# Altium schematic symbol library alt lib.SchLib: 35 symbols
Pins are listed as number, name and electrical type; pins without a type are passive.

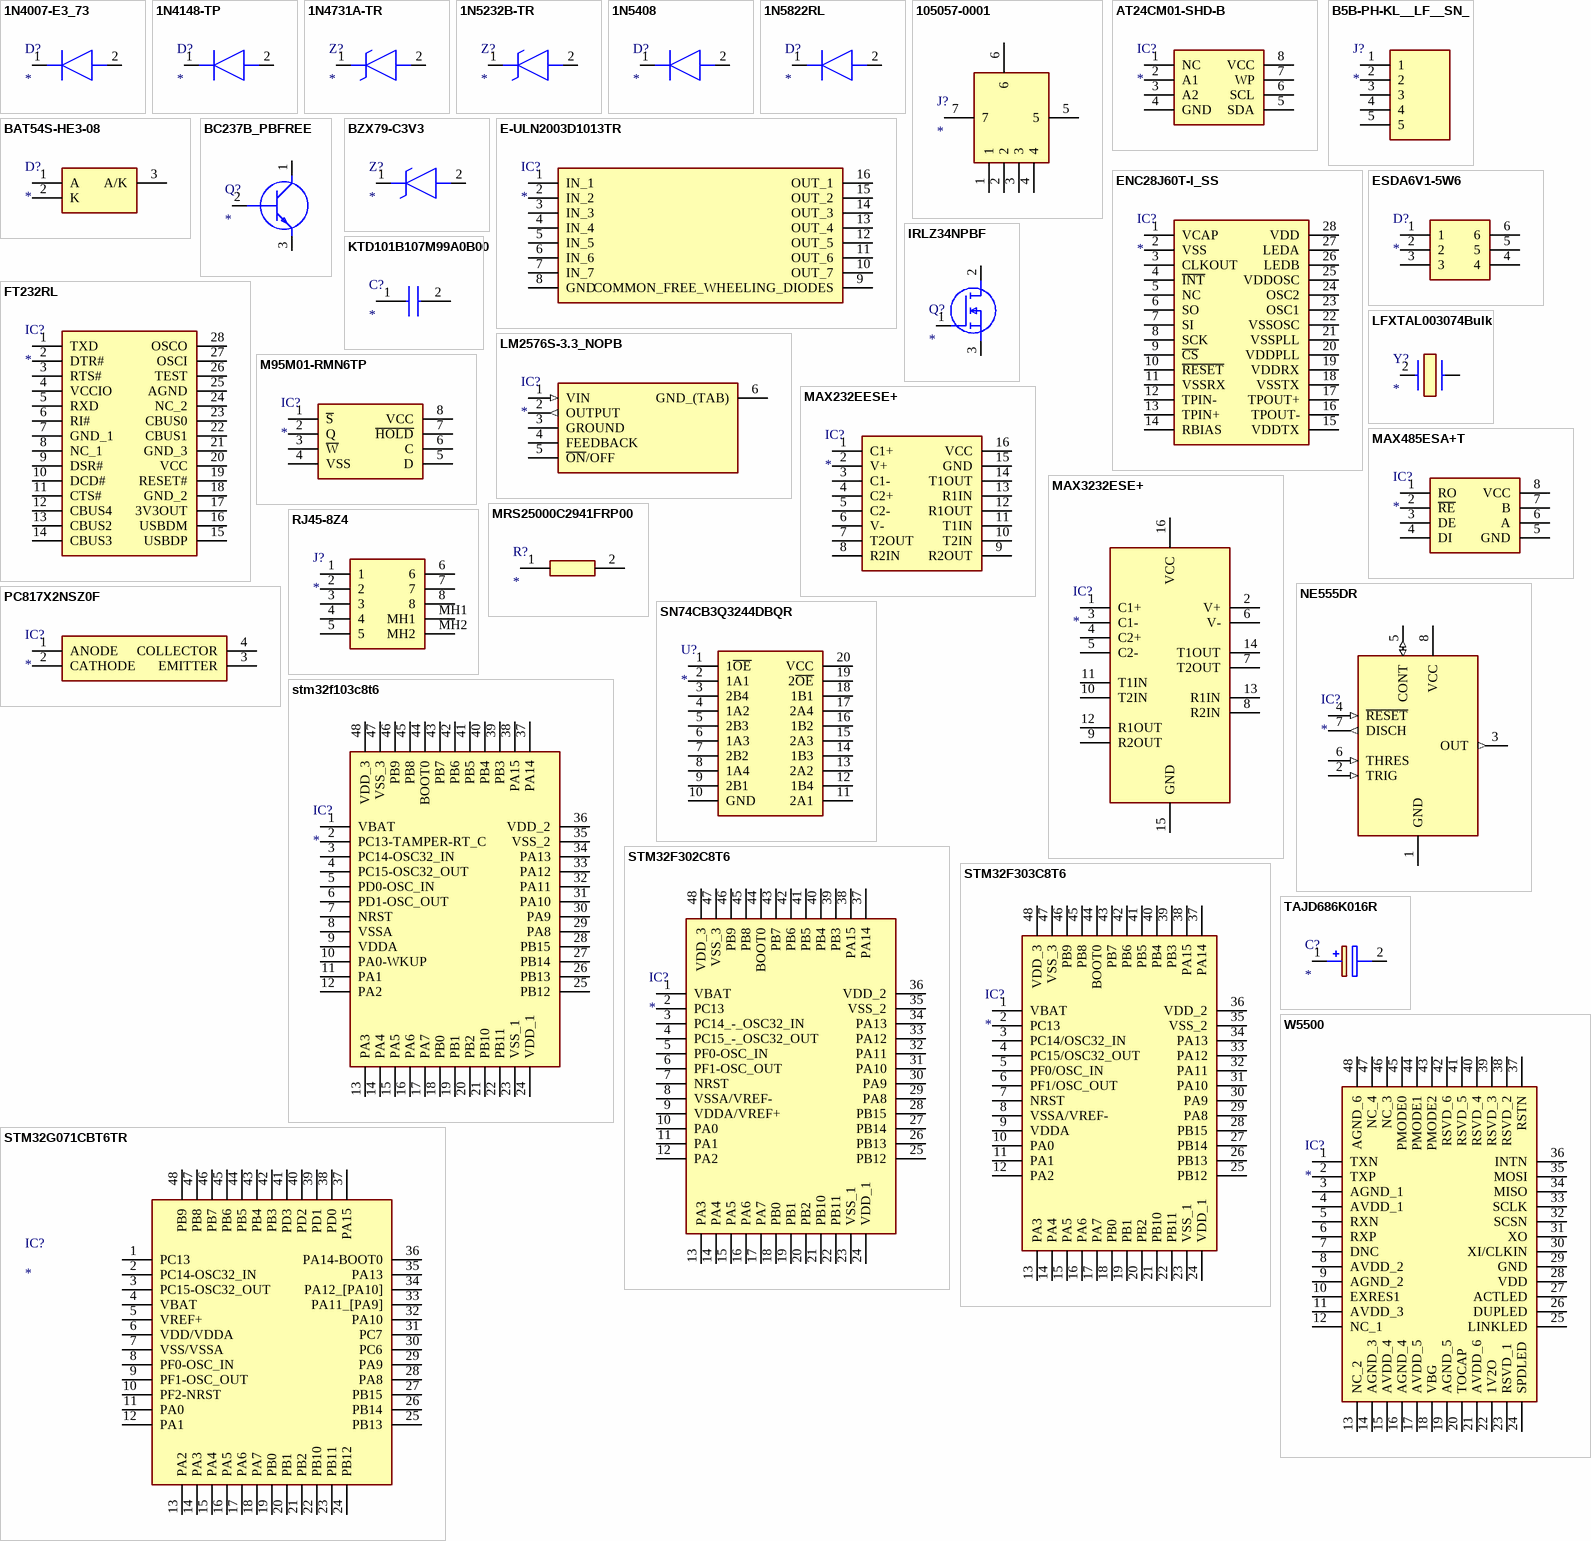
[diagram p0: symbols 1N4007-E3_73 to W5500]

## 1N4007-E3_73
designator D?
Diode; Manufacturer_Name: Vishay; Manufacturer_Part_Number: 1N4007-E3/73; Datasheet Link: https://mouser.componentsearchengine.com/Datasheets/2/1N4007-E3_73.pdf; Mouser Part Number: 625-1N4007-E3/73; Mouser Price/Stock: https://www.mouser.co.uk/ProductDetail/Vishay-General-Semiconductor/1N4007-E3-73?qs=N4vtoAxH%2FSqT3Ng3e4K0Gw%3D%3D; Arrow Part Number: 1N4007-E3/73; Arrow Price/Stock: https://www.arrow.com/en/products/1n4007-e373/vishay?utm_currency=USD&region=europe
footprint DIOAD1405W86L465D235
pins: 1 K, 2 A

## 1N4148-TP
designator D?
Diode; Manufacturer_Name: MCC; Manufacturer_Part_Number: 1N4148-TP; Datasheet Link: https://datasheet.datasheetarchive.com/originals/distributors/Datasheets_SAMA/a133e21e9f85d77be1f89cbddda842d3.pdf; Mouser Part Number: 833-1N4148-TP; Mouser Price/Stock: https://www.mouser.co.uk/ProductDetail/Micro-Commercial-Components-MCC/1N4148-TP?qs=WKjw%2FjEc%2FjNjhjv2m2YYjw%3D%3D; Arrow Part Number: 1N4148-TP; Arrow Price/Stock: https://www.arrow.com/en/products/1n4148-tp/micro-commercial-components?region=nac
footprint DIOAD1220W52L420D200
pins: 1 K, 2 A

## 1N4731A-TR
designator Z?
Zener Diode; Manufacturer_Name: Vishay; Manufacturer_Part_Number: 1N4731A-TR; Datasheet Link: https://datasheet.datasheetarchive.com/originals/distributors/Datasheets-314/271599.pdf; Mouser Part Number: 78-1N4731A; Mouser Price/Stock: https://www.mouser.co.uk/ProductDetail/Vishay-Semiconductors/1N4731A-TR?qs=oNDV51lhjEN87sfLnBRrvg%3D%3D; Arrow Part Number: 1N4731A-TR; Arrow Price/Stock: https://www.arrow.com/en/products/1n4731a-tr/vishay
footprint DIOAD1310W86L370D235
pins: 1 K, 2 A

## 1N5232B-TR
designator Z?
Zener Diode; Manufacturer_Name: Vishay; Manufacturer_Part_Number: 1N5232B-TR; Datasheet Link: https://www.vishay.com/docs/85588/1n5221.pdf; Mouser Part Number: 78-1N5232B; Mouser Price/Stock: https://www.mouser.co.uk/ProductDetail/Vishay-Semiconductors/1N5232B-TR?qs=TNTIDjy6APrTslQIiZV26Q%3D%3D; Arrow Part Number: 1N5232B-TR; Arrow Price/Stock: https://www.arrow.com/en/products/1n5232b-tr/vishay?region=nac
footprint DIOAD990W55L350D160
pins: 1 K, 2 A

## 1N5408
designator D?
Diode; Manufacturer_Name: HY Electronic; Manufacturer_Part_Number: 1N5408; Datasheet Link: http://uk.rs-online.com/web/p/products/9033315
footprint DIOAD3020W130L900D530
pins: 1 K, 2 A

## 1N5822RL
designator D?
Diode; Manufacturer_Name: STMicroelectronics; Manufacturer_Part_Number: 1N5822RL; Datasheet Link: http://www.st.com/web/en/resource/technical/document/datasheet/CD00001626.pdf; Mouser Part Number: 511-1N5822-TR; Mouser Price/Stock: https://www.mouser.co.uk/ProductDetail/STMicroelectronics/1N5822RL?qs=7w4CAYqbMj3Og2p4%2Fm2SJg%3D%3D; Arrow Part Number: 1N5822RL; Arrow Price/Stock: https://www.arrow.com/en/products/1n5822rl/stmicroelectronics?region=europe
footprint DIOAD3070W130L950D530
pins: 1 K, 2 A

## 105057-0001
designator J?
Connector; Manufacturer_Name: Molex; Manufacturer_Part_Number: 105057-0001; Datasheet Link: https://www.molex.com/content/dam/molex/molex-dot-com/products/automated/en-us/salesdrawingpdf/105/105057/1050570001_sd.pdf?inline; Height: 10.5mm; Mouser Part Number: 538-105057-0001; Mouser Price/Stock: https://www.mouser.co.uk/ProductDetail/Molex/105057-0001?qs=3OKVfsn1b5CF9LM7npexZw%3D%3D
footprint 1050570001
pins: 1, 2, 3, 4, 5, 6, 7

## AT24CM01-SHD-B
designator IC?
Integrated Circuit; Manufacturer_Name: Microchip; Manufacturer_Part_Number: AT24CM01-SHD-B; Datasheet Link: https://componentsearchengine.com/Datasheets/1/AT24CM01-SHD-B.pdf; Height: 2.16mm; Mouser Part Number: 556-AT24CM01-SHD-B; Mouser Price/Stock: https://www.mouser.co.uk/ProductDetail/Microchip-Technology/AT24CM01-SHD-B?qs=s44pgLhgXQg2TZnboV%2FEWg%3D%3D; Arrow Part Number: AT24CM01-SHD-B; Arrow Price/Stock: https://www.arrow.com/en/products/at24cm01-shd-b/microchip-technology
footprint SOIC127P798X216-8N
pins: 1 NC, 2 A1, 3 A2, 4 GND (power), 5 SDA, 6 SCL, 7 WP, 8 VCC

## B5B-PH-KL__LF__SN_
designator J?
Connector; Manufacturer_Name: JST (JAPAN SOLDERLESS TERMINALS); Manufacturer_Part_Number: B5B-PH-KL (LF)(SN); Height: 6mm; Arrow Part Number: B5B-PH-KL (LF)(SN); Arrow Price/Stock: https://www.arrow.com/en/products/b5b-ph-kl-lf-sn/jst-manufacturing?utm_currency=USD&region=europe
footprint SHDR5W50P0X200_1X5_1190X450X600P
pins: 1, 2, 3, 4, 5

## BAT54S-HE3-08
designator D?
Schottky Diode; Manufacturer_Name: Vishay; Manufacturer_Part_Number: BAT54S-HE3-08; Datasheet Link: http://www.vishay.com/docs/85508/bat54.pdf; Height: 1.15mm; Mouser Part Number: 78-BAT54S-HE3-08; Mouser Price/Stock: https://www.mouser.co.uk/ProductDetail/Vishay-Semiconductors/BAT54S-HE3-08?qs=ESFF34Uzhwhn6y9Gfu%2FCEQ%3D%3D; Arrow Part Number: BAT54S-HE3-08; Arrow Price/Stock: https://www.arrow.com/en/products/bat54s-he3-08/vishay
footprint SOT95P248X115-3N
pins: 1 A, 2 K, 3 A/K

## BC237B_PBFREE
designator Q?
Transistor BJT NPN; Manufacturer_Name: Central Semiconductor; Manufacturer_Part_Number: BC237B PBFREE; Datasheet Link: https://my.centralsemi.com/get_document.php?cmp=1&mergetype=pd&mergepath=pd&pdf_id=BC237A-C.PDF; Height: 7.87mm; Mouser Part Number: 610-BC237B; Mouser Price/Stock: https://www.mouser.co.uk/ProductDetail/Central-Semiconductor/BC237B-PBFREE?qs=u16ybLDytRZVyjPFroByYw%3D%3D
footprint BC237BPBFREE
pins: 1 C, 2 B, 3 E

## BZX79-C3V3
designator Z?
Zener Diode; Manufacturer_Name: Nexperia; Manufacturer_Part_Number: BZX79-C3V3; Datasheet Link: https://datasheet.datasheetarchive.com/originals/distributors/Datasheets-SFU1/DSASFU100011374.pdf; Mouser Part Number: N/A; Mouser Price/Stock: https://www.mouser.co.uk/ProductDetail/Nexperia/BZX79-C3V3?qs=vHuUswq2%252BsxAKcjvT%2FIKSQ%3D%3D
footprint DIOAD1165W56L425D185
pins: 1 K, 2 A

## E-ULN2003D1013TR
designator IC?
Integrated Circuit; Manufacturer_Name: STMicroelectronics; Manufacturer_Part_Number: E-ULN2003D1013TR; Datasheet Link: https://www.st.com/content/ccc/resource/technical/document/datasheet/f3/6e/c8/64/4d/b3/4e/38/CD00001244.pdf/files/CD00001244.pdf/jcr:content/translations/en.CD00001244.pdf; Height: 1.75mm; Mouser Part Number: 511-E-ULN2003D1013TR; Mouser Price/Stock: https://www.mouser.co.uk/ProductDetail/STMicroelectronics/E-ULN2003D1013TR?qs=RMKZFpOXosE33%2Fk5HgpQgg%3D%3D
footprint SOIC127P600X175-16N
pins: 1 IN_1, 2 IN_2, 3 IN_3, 4 IN_4, 5 IN_5, 6 IN_6, 7 IN_7, 8 GND, 9 COMMON_FREE_WHEELING_DIODES, 10 OUT_7, 11 OUT_6, 12 OUT_5, 13 OUT_4, 14 OUT_3, 15 OUT_2, 16 OUT_1

## ENC28J60T-I_SS
designator IC?
Integrated Circuit; Manufacturer_Name: Microchip; Manufacturer_Part_Number: ENC28J60T-I/SS; Datasheet Link: https://mouser.componentsearchengine.com/Datasheets/2/ENC28J60T-I_SS.pdf; Height: 2mm; Mouser Part Number: 579-ENC28J60T-I/SS; Mouser Price/Stock: https://www.mouser.co.uk/ProductDetail/Microchip-Technology/ENC28J60T-I-SS?qs=0swJU7D5CoWRYqX2omYpJQ%3D%3D; Arrow Part Number: ENC28J60T-I/SS; Arrow Price/Stock: https://www.arrow.com/en/products/enc28j60t-iss/microchip-technology?utm_currency=USD&region=nac
footprint SOP65P780X200-28N
pins: 1 VCAP, 2 VSS, 3 CLKOUT, 4 ~{INT}, 5 NC, 6 SO, 7 SI, 8 SCK, 9 ~{CS}, 10 ~{RESET}, 11 VSSRX, 12 TPIN-, 13 TPIN+, 14 RBIAS, 15 VDDTX, 16 TPOUT-, 17 TPOUT+, 18 VSSTX, 19 VDDRX, 20 VDDPLL, 21 VSSPLL, 22 VSSOSC, 23 OSC1, 24 OSC2, 25 VDDOSC, 26 LEDB, 27 LEDA, 28 VDD

## ESDA6V1-5W6
designator D?
TVS Diode (Uni-directional); Manufacturer_Name: STMicroelectronics; Manufacturer_Part_Number: ESDA6V1-5W6; Datasheet Link: http://www.st.com/content/ccc/resource/technical/document/datasheet/cd/9b/8d/39/1f/d4/43/ba/CD00064033.pdf/files/CD00064033.pdf/jcr:content/translations/en.CD00064033.pdf; Height: 1.1mm; Mouser Part Number: 511-ESDA6V1-5W6; Mouser Price/Stock: https://www.mouser.co.uk/ProductDetail/STMicroelectronics/ESDA6V1-5W6?qs=1B3Q%2FtOggyxHnLyTXcEtKg%3D%3D; Arrow Part Number: ESDA6V1-5W6; Arrow Price/Stock: https://www.arrow.com/en/products/esda6v1-5w6/stmicroelectronics?region=nac
footprint SOT65P210X110-6N
pins: 1, 2, 3, 4, 5, 6

## FT232RL
designator IC?
Integrated Circuit; Manufacturer_Name: FTDI Chip; Manufacturer_Part_Number: FT232RL; Datasheet Link: http://www.ftdichip.com/Support/Documents/DataSheets/ICs/DS_FT232R.pdf; Height: 2mm; Arrow Part Number: FT232RL; Arrow Price/Stock: https://www.arrow.com/en/products/ft232rl/ftdi-chip?region=nac
footprint SOP65P778X200-28N
pins: 1 TXD, 2 DTR#, 3 RTS#, 4 VCCIO, 5 RXD, 6 RI#, 7 GND_1, 8 NC_1, 9 DSR#, 10 DCD#, 11 CTS#, 12 CBUS4, 13 CBUS2, 14 CBUS3, 15 USBDP, 16 USBDM, 17 3V3OUT, 18 GND_2, 19 RESET#, 20 VCC, 21 GND_3, 22 CBUS1, 23 CBUS0, 24 NC_2, 25 AGND, 26 TEST, 27 OSCI, 28 OSCO

## IRLZ34NPBF
designator Q?
MOSFET (N-Channel); Manufacturer_Name: Infineon; Manufacturer_Part_Number: IRLZ34NPBF; Datasheet Link: https://componentsearchengine.com/Datasheets/2/IRLZ34NPBF.pdf; Height: 4.69mm; Mouser Part Number: 942-IRLZ34NPBF; Mouser Price/Stock: https://www.mouser.co.uk/ProductDetail/Infineon-Technologies/IRLZ34NPBF?qs=9%252BKlkBgLFf2QcbVnu%252BS1ZA%3D%3D; Arrow Part Number: IRLZ34NPBF; Arrow Price/Stock: https://www.arrow.com/en/products/irlz34npbf/infineon-technologies-ag?utm_currency=USD&region=europe
footprint TO254P469X1042X1967-3P
pins: 1 G, 2 D, 3 S

## KTD101B107M99A0B00
designator C?
Capacitor; Manufacturer_Name: Chemi-Con; Manufacturer_Part_Number: KTD101B107M99A0B00; Datasheet Link: https://www.digikey.ph/en/products/detail/chemi-con/KTD101B107M99A0B00/6189640?msockid=39f1ec84d77b6f4428b7f904d6676eed; Height: 20mm; Mouser Part Number: 661-KTD101B107M99A0B; Mouser Price/Stock: https://www.mouser.co.uk/ProductDetail/United-Chemi-Con/KTD101B107M99A0B00?qs=4JX4e57RtWy12yhiyvIe4g%3D%3D
footprint KTD101B107M99A0B00
pins: 1, 2

## LFXTAL003074Bulk
designator Y?
Crystal or Oscillator; Manufacturer_Name: IQD; Manufacturer_Part_Number: LFXTAL003074Bulk; Datasheet Link: https://www.arrow.com/en/products/lfxtal003074bulk/iqd-frequency-products; Height: 4.1mm; Mouser Part Number: 449-LFXTAL003074BULK; Mouser Price/Stock: https://www.mouser.co.uk/ProductDetail/IQD/LFXTAL003074Bulk?qs=e4%2FAndAAwgKzmqycppxIoA%3D%3D; Arrow Part Number: LFXTAL003074BULK; Arrow Price/Stock: https://www.arrow.com/en/products/lfxtal003074bulk/iqd-frequency-products?region=europe
footprint LFXTAL003074Bulk
pins: 2 CRYSTAL_2, ?1

## LM2576S-3.3_NOPB
designator IC?
Integrated Circuit; Manufacturer_Name: Texas Instruments; Manufacturer_Part_Number: LM2576S-3.3/NOPB; Datasheet Link: http://www.ti.com/lit/ds/symlink/lm2576.pdf; Height: 4.65mm; Mouser Part Number: 926-LM2576S-3.3/NOPB; Mouser Price/Stock: https://www.mouser.co.uk/ProductDetail/Texas-Instruments/LM2576S-3.3-NOPB?qs=X1J7HmVL2ZHgUfnXFulfHg%3D%3D; Arrow Part Number: LM2576S-3.3/NOPB; Arrow Price/Stock: https://www.arrow.com/en/products/lm2576s-3.3nopb/texas-instruments?utm_currency=USD&region=nac
footprint TO170P1435X465-6N
pins: 1 VIN (in), 2 OUTPUT (out), 3 GROUND, 4 FEEDBACK, 5 ~{ON}/OFF, 6 GND_(TAB) (power)

## M95M01-RMN6TP
designator IC?
Integrated Circuit; Manufacturer_Name: STMicroelectronics; Manufacturer_Part_Number: M95M01-RMN6TP; Datasheet Link: http://www.st.com/content/ccc/resource/technical/document/datasheet/ad/ab/88/6c/dc/4b/4c/28/CD00152481.pdf/files/CD00152481.pdf/jcr:content/translations/en.CD00152481.pdf; Height: 1.75mm; Mouser Part Number: 511-M95M01-RMN6TP; Mouser Price/Stock: https://www.mouser.co.uk/ProductDetail/STMicroelectronics/M95M01-RMN6TP?qs=qolwYojYp3QqDPQWNiLmMg%3D%3D; Arrow Part Number: M95M01-RMN6TP; Arrow Price/Stock: https://www.arrow.com/en/products/m95m01-rmn6tp/stmicroelectronics?region=nac
footprint SOIC127P600X175-8N
pins: 1 ~{S}, 2 Q, 3 ~{W}, 4 VSS, 5 D, 6 C, 7 ~{HOLD}, 8 VCC

## MAX232EESE+
designator IC?
Integrated Circuit; Manufacturer_Name: Analog Devices; Manufacturer_Part_Number: MAX232EESE+; Datasheet Link: https://www.analog.com/MAX232E/datasheet; Height: 1.99mm; Mouser Part Number: 700-MAX232EESE; Mouser Price/Stock: https://www.mouser.co.uk/ProductDetail/Maxim-Integrated/MAX232EESE%2b?qs=1THa7WoU59E6tBtO6rcq%252BA%3D%3D; Arrow Part Number: MAX232EESE+; Arrow Price/Stock: https://www.arrow.com/en/products/max232eese/analog-devices?region=europe
footprint SOP65P778X199-16N
pins: 1 C1+, 2 V+, 3 C1-, 4 C2+, 5 C2-, 6 V-, 7 T2OUT, 8 R2IN, 9 R2OUT, 10 T2IN, 11 T1IN, 12 R1OUT, 13 R1IN, 14 T1OUT, 15 GND, 16 VCC

## MAX485ESA+T
designator IC?
Integrated Circuit; Manufacturer_Name: Analog Devices; Manufacturer_Part_Number: MAX485ESA+T; Datasheet Link: https://datasheets.maximintegrated.com/en/ds/MAX1487-MAX491.pdf; Height: 1.75mm; Mouser Part Number: 700-MAX485ESAT; Mouser Price/Stock: https://www.mouser.co.uk/ProductDetail/Analog-Devices-Maxim-Integrated/MAX485ESA%2bT?qs=LHmEVA8xxfYXmvxEk%252BFtEg%3D%3D; Arrow Part Number: MAX485ESA+T; Arrow Price/Stock: https://www.arrow.com/en/products/max485esat/analog-devices?utm_currency=USD&region=nac
footprint SOIC127P600X175-8N
pins: 1 RO, 2 ~{RE}, 3 DE, 4 DI, 5 GND, 6 A, 7 B, 8 VCC

## MAX3232ESE+
designator IC?
Integrated Circuit; Manufacturer_Name: Analog Devices; Manufacturer_Part_Number: MAX3232ESE+; Datasheet Link: https://www.mouser.com/datasheet/2/256/MAX3222-MAX3241-1292123.pdf; Height: 1.75mm; Mouser Part Number: 700-MAX3232ESE; Mouser Price/Stock: https://www.mouser.co.uk/ProductDetail/Analog-Devices-Maxim-Integrated/MAX3232ESE%2b?qs=1THa7WoU59GfcUr9ieNstA%3D%3D; Arrow Part Number: MAX3232ESE+; Arrow Price/Stock: https://www.arrow.com/en/products/max3232ese/analog-devices?region=asia
footprint SOIC127P600X175-16N
pins: 1 C1+, 2 V+, 3 C1-, 4 C2+, 5 C2-, 6 V-, 7 T2OUT, 8 R2IN, 9 R2OUT, 10 T2IN, 11 T1IN, 12 R1OUT, 13 R1IN, 14 T1OUT, 15 GND, 16 VCC

## MRS25000C2941FRP00
designator R?
Resistor; Manufacturer_Name: Vishay; Manufacturer_Part_Number: MRS25000C2941FRP00; Datasheet Link: http://www.vishay.com/docs/28724/mrs16m25.pdf; Mouser Part Number: N/A; Mouser Price/Stock: https://www.mouser.co.uk/ProductDetail/Vishay-BC-Components/MRS25000C2941FRP00?qs=gQQ%2FpDEpiRIm3bTH1erXVg%3D%3D; Arrow Part Number: MRS25000C2941FRP00; Arrow Price/Stock: https://www.arrow.com/en/products/mrs25000c2941frp00/vishay
footprint RESAD1650W60L650D250
pins: 1, 2

## NE555DR
designator IC?
Integrated Circuit; Manufacturer_Name: Texas Instruments; Manufacturer_Part_Number: NE555DR; Datasheet Link: http://www.ti.com/lit/ds/symlink/ne555.pdf; Height: 1.75mm; Mouser Part Number: 595-NE555DR; Mouser Price/Stock: https://www.mouser.com/Search/Refine.aspx?Keyword=595-NE555DR; RS Part Number: 1218414; RS Price/Stock: http://uk.rs-online.com/web/p/products/1218414
footprint SOIC127P600X175-8N
pins: 1 GND (power), 2 TRIG (in), 3 OUT (out), 4 ~{RESET} (in), 5 CONT (io), 6 THRES (in), 7 DISCH (out), 8 VCC (power)

## PC817X2NSZ0F
designator IC?
Integrated Circuit; Manufacturer_Name: Sharp Microelectronics; Manufacturer_Part_Number: PC817X2NSZ0F; Datasheet Link: https://datasheet.datasheetarchive.com/originals/distributors/Datasheets_SAMA/458e45842a103a05998fcebbd6f7366e.pdf; Height: 4mm; Mouser Part Number: N/A; Mouser Price/Stock: https://www.mouser.co.uk/ProductDetail/Sharp-Microelectronics/PC817X2NSZ0F?qs=6kT3pPPHxnU7uYWM8Yy85A%3D%3D
footprint DIP762W60P254L458H400Q4N
pins: 1 ANODE, 2 CATHODE, 3 EMITTER, 4 COLLECTOR

## RJ45-8Z4
designator J?
Connector; Manufacturer_Name: TE Connectivity; Manufacturer_Part_Number: RJ45-8Z4; Datasheet Link: https://media.digikey.com/pdf/Data%20Sheets/Tyco%20Electronics%20Corcom%20PDFs/Z_Series.pdf; Height: 13.08mm; Mouser Part Number: 592-RJ45-8Z4; Mouser Price/Stock: https://www.mouser.co.uk/ProductDetail/TE-Connectivity-Corcom/RJ45-8Z4?qs=7kimBNJHayDCs5Ci3ERF6w%3D%3D
footprint RJ458Z4
pins: 1, 2, 3, 4, 5, 6, 7, 8, MH1, MH2

## SN74CB3Q3244DBQR
designator U?
Undefined or Miscellaneous; Manufacturer_Name: Texas Instruments; Manufacturer_Part_Number: SN74CB3Q3244DBQR; Datasheet Link: http://www.ti.com/lit/gpn/sn74cb3q3244; Height: 1.75mm; Mouser Part Number: 595-SN74CB3Q3244DBQR; Mouser Price/Stock: https://www.mouser.co.uk/ProductDetail/Texas-Instruments/SN74CB3Q3244DBQR?qs=ULgY8XwKjTm4U%2FmPjPW1jw%3D%3D
footprint SOP64P600X175-20N
pins: 1 1~{OE}, 2 1A1, 3 2B4, 4 1A2, 5 2B3, 6 1A3, 7 2B2, 8 1A4, 9 2B1, 10 GND, 11 2A1, 12 1B4, 13 2A2, 14 1B3, 15 2A3, 16 1B2, 17 2A4, 18 1B1, 19 2~{OE}, 20 VCC

## stm32f103c8t6
designator IC?
Integrated Circuit; Manufacturer_Name: STMicroelectronics; Manufacturer_Part_Number: stm32f103c8t6; Datasheet Link: http://media.digikey.com/pdf/Data%20Sheets/ST%20Microelectronics%20PDFS/STM32F103x8,B.pdf; Height: 1.6mm; Mouser Part Number: 511-STM32F103C8T6; Mouser Price/Stock: https://www.mouser.co.uk/ProductDetail/STMicroelectronics/STM32F103C8T6?qs=bhCVus9SdFtq6kqxsU5%2FDA%3D%3D; Arrow Part Number: STM32F103C8T6; Arrow Price/Stock: https://www.arrow.com/en/products/stm32f103c8t6/stmicroelectronics?utm_currency=USD&region=nac
footprint QFP50P900X900X160-48N
pins: 1 VBAT, 2 PC13-TAMPER-RT_C, 3 PC14-OSC32_IN, 4 PC15-OSC32_OUT, 5 PD0-OSC_IN, 6 PD1-OSC_OUT, 7 NRST, 8 VSSA, 9 VDDA, 10 PA0-WKUP, 11 PA1, 12 PA2, 13 PA3, 14 PA4, 15 PA5, 16 PA6, 17 PA7, 18 PB0, 19 PB1, 20 PB2, 21 PB10, 22 PB11, 23 VSS_1, 24 VDD_1, 25 PB12, 26 PB13, 27 PB14, 28 PB15, 29 PA8, 30 PA9, 31 PA10, 32 PA11, 33 PA12, 34 PA13, 35 VSS_2, 36 VDD_2, 37 PA14, 38 PA15, 39 PB3, 40 PB4, 41 PB5, 42 PB6, 43 PB7, 44 BOOT0, 45 PB8, 46 PB9, 47 VSS_3, 48 VDD_3

## STM32F302C8T6
designator IC?
Integrated Circuit; Manufacturer_Name: STMicroelectronics; Manufacturer_Part_Number: STM32F302C8T6; Datasheet Link: http://www.st.com/content/ccc/resource/technical/document/datasheet/e4/06/d5/04/58/af/41/14/DM00093333.pdf/files/DM00093333.pdf/jcr:content/translations/en.DM00093333.pdf; Height: 1.6mm; Mouser Part Number: 511-STM32F302C8T6; Mouser Price/Stock: https://www.mouser.co.uk/ProductDetail/STMicroelectronics/STM32F302C8T6?qs=F5OEftmZcCDUtHR76ET77A%3D%3D; Arrow Part Number: STM32F302C8T6; Arrow Price/Stock: https://www.arrow.com/en/products/stm32f302c8t6/stmicroelectronics
footprint QFP50P900X900X160-48N
pins: 1 VBAT (power), 2 PC13, 3 PC14_-_OSC32_IN, 4 PC15_-_OSC32_OUT, 5 PF0-OSC_IN, 6 PF1-OSC_OUT, 7 NRST, 8 VSSA/VREF- (power), 9 VDDA/VREF+ (power), 10 PA0, 11 PA1, 12 PA2, 13 PA3, 14 PA4, 15 PA5, 16 PA6, 17 PA7, 18 PB0, 19 PB1, 20 PB2, 21 PB10, 22 PB11, 23 VSS_1 (power), 24 VDD_1 (power), 25 PB12, 26 PB13, 27 PB14, 28 PB15, 29 PA8, 30 PA9, 31 PA10, 32 PA11, 33 PA12, 34 PA13, 35 VSS_2 (power), 36 VDD_2 (power), 37 PA14, 38 PA15, 39 PB3, 40 PB4, 41 PB5, 42 PB6, 43 PB7, 44 BOOT0, 45 PB8, 46 PB9, 47 VSS_3 (power), 48 VDD_3 (power)

## STM32F303C8T6
designator IC?
Integrated Circuit; Manufacturer_Name: STMicroelectronics; Manufacturer_Part_Number: STM32F303C8T6; Datasheet Link: http://www.farnell.com/datasheets/2042755.pdf; Height: 1.6mm; Mouser Part Number: 511-STM32F303C8T6; Mouser Price/Stock: https://www.mouser.co.uk/ProductDetail/STMicroelectronics/STM32F303C8T6?qs=s5SkPsIz10%2Fkobzkh1AwOg%3D%3D; Arrow Part Number: STM32F303C8T6; Arrow Price/Stock: https://www.arrow.com/en/products/stm32f303c8t6/stmicroelectronics?region=nac
footprint QFP50P900X900X160-48N
pins: 1 VBAT, 2 PC13, 3 PC14/OSC32_IN, 4 PC15/OSC32_OUT, 5 PF0/OSC_IN, 6 PF1/OSC_OUT, 7 NRST, 8 VSSA/VREF-, 9 VDDA, 10 PA0, 11 PA1, 12 PA2, 13 PA3, 14 PA4, 15 PA5, 16 PA6, 17 PA7, 18 PB0, 19 PB1, 20 PB2, 21 PB10, 22 PB11, 23 VSS_1, 24 VDD_1, 25 PB12, 26 PB13, 27 PB14, 28 PB15, 29 PA8, 30 PA9, 31 PA10, 32 PA11, 33 PA12, 34 PA13, 35 VSS_2, 36 VDD_2, 37 PA14, 38 PA15, 39 PB3, 40 PB4, 41 PB5, 42 PB6, 43 PB7, 44 BOOT0, 45 PB8, 46 PB9, 47 VSS_3, 48 VDD_3

## STM32G071CBT6TR
designator IC?
Integrated Circuit; Manufacturer_Name: STMicroelectronics; Manufacturer_Part_Number: STM32G071CBT6TR; Datasheet Link: https://www.st.com/resource/en/datasheet/stm32g071cb.pdf; Height: 1.6mm; Mouser Part Number: 511-STM32G071CBT6TR; Mouser Price/Stock: https://www.mouser.co.uk/ProductDetail/STMicroelectronics/STM32G071CBT6TR?qs=l7cgNqFNU1gody9j5I9dSQ%3D%3D; Arrow Part Number: STM32G071CBT6TR; Arrow Price/Stock: https://www.arrow.com/en/products/stm32g071cbt6tr/stmicroelectronics?region=nac
footprint QFP50P900X900X160-48N
pins: 1 PC13, 2 PC14-OSC32_IN, 3 PC15-OSC32_OUT, 4 VBAT, 5 VREF+, 6 VDD/VDDA, 7 VSS/VSSA, 8 PF0-OSC_IN, 9 PF1-OSC_OUT, 10 PF2-NRST, 11 PA0, 12 PA1, 13 PA2, 14 PA3, 15 PA4, 16 PA5, 17 PA6, 18 PA7, 19 PB0, 20 PB1, 21 PB2, 22 PB10, 23 PB11, 24 PB12, 25 PB13, 26 PB14, 27 PB15, 28 PA8, 29 PA9, 30 PC6, 31 PC7, 32 PA10, 33 PA11_[PA9], 34 PA12_[PA10], 35 PA13, 36 PA14-BOOT0, 37 PA15, 38 PD0, 39 PD1, 40 PD2, 41 PD3, 42 PB3, 43 PB4, 44 PB5, 45 PB6, 46 PB7, 47 PB8, 48 PB9

## TAJD686K016R
designator C?
Capacitor Polarised; Manufacturer_Name: Kyocera AVX; Manufacturer_Part_Number: TAJD686K016R; Datasheet Link: http://datasheets.avx.com/TAJ.pdf; Height: 3.1mm
footprint CAPPM7344X310N
pins: 1 +, 2 -

## W5500
designator IC?
Integrated Circuit; Manufacturer_Name: WIZnet Inc; Manufacturer_Part_Number: W5500; Datasheet Link: http://wizwiki.net/wiki/lib/exe/fetch.php?media=products:w5500:w5500_ds_v106e_141230.pdf; Height: 1.6mm; Mouser Part Number: 950-W5500; Mouser Price/Stock: https://www.mouser.co.uk/ProductDetail/WIZnet/W5500?qs=2vh%252B45pPFtzthUpYPd4pqA%3D%3D
footprint QFP50P900X900X160-48N
pins: 1 TXN, 2 TXP, 3 AGND_1, 4 AVDD_1, 5 RXN, 6 RXP, 7 DNC, 8 AVDD_2, 9 AGND_2, 10 EXRES1, 11 AVDD_3, 12 NC_1, 13 NC_2, 14 AGND_3, 15 AVDD_4, 16 AGND_4, 17 AVDD_5, 18 VBG, 19 AGND_5, 20 TOCAP, 21 AVDD_6, 22 1V2O, 23 RSVD_1, 24 SPDLED, 25 LINKLED, 26 DUPLED, 27 ACTLED, 28 VDD, 29 GND, 30 XI/CLKIN, 31 XO, 32 SCSN, 33 SCLK, 34 MISO, 35 MOSI, 36 INTN, 37 RSTN, 38 RSVD_2, 39 RSVD_3, 40 RSVD_4, 41 RSVD_5, 42 RSVD_6, 43 PMODE2, 44 PMODE1, 45 PMODE0, 46 NC_3, 47 NC_4, 48 AGND_6